# EAGLE library part ML34?E (library con-harting-ml)
HARTING
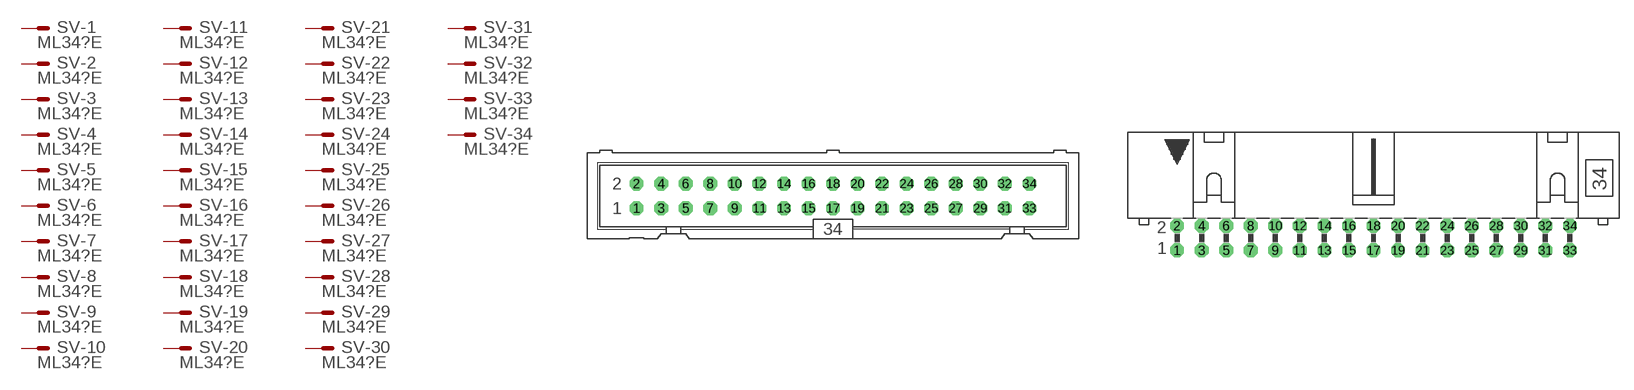
[diagram p1: symbol with the pads of ML34; footprints ML34, ML34L]

Designator prefix SV; gates -1=M -2=M -3=M -4=M -5=M -6=M -7=M -8=M -9=M -10=M -11=M -12=M -13=M -14=M -15=M -16=M -17=M -18=M -19=M -20=M -21=M -22=M -23=M -24=M -25=M -26=M -27=M -28=M -29=M -30=M -31=M -32=M -33=M -34=M

## ML34E (OC_FARNELL: unknown; OC_NEWARK: unknown)  [ML34]
1  -1:S  pas
2  -2:S  pas
3  -3:S  pas
4  -4:S  pas
5  -5:S  pas
6  -6:S  pas
7  -7:S  pas
8  -8:S  pas
9  -9:S  pas
10  -10:S  pas
11  -11:S  pas
12  -12:S  pas
13  -13:S  pas
14  -14:S  pas
15  -15:S  pas
16  -16:S  pas
17  -17:S  pas
18  -18:S  pas
19  -19:S  pas
20  -20:S  pas
21  -21:S  pas
22  -22:S  pas
23  -23:S  pas
24  -24:S  pas
25  -25:S  pas
26  -26:S  pas
27  -27:S  pas
28  -28:S  pas
29  -29:S  pas
30  -30:S  pas
31  -31:S  pas
32  -32:S  pas
33  -33:S  pas
34  -34:S  pas

## ML34LE (OC_FARNELL: unknown; OC_NEWARK: unknown)  [ML34L]
Pads as for ML34

## ML343ME (OC_FARNELL: unknown; OC_NEWARK: unknown)  [3M_34]
Pads as for ML34

## ML343MLE (OC_FARNELL: unknown; OC_NEWARK: unknown)  [3M_34L]
Pads as for ML34

## Footprint ML34 (pad centres in mm)
HARTING
drill 0.914 octagon: 1 -20.32,-1.27; 2 -20.32,1.27; 3 -17.78,-1.27; 4 -17.78,1.27; 5 -15.24,-1.27; 6 -15.24,1.27; 7 -12.7,-1.27; 8 -12.7,1.27; 9 -10.16,-1.27; 10 -10.16,1.27; 11 -7.62,-1.27; 12 -7.62,1.27; 13 -5.08,-1.27; 14 -5.08,1.27; 15 -2.54,-1.27; 16 -2.54,1.27; 17 0,-1.27; 18 0,1.27; 19 2.54,-1.27; 20 2.54,1.27; 21 5.08,-1.27; 22 5.08,1.27; 23 7.62,-1.27; 24 7.62,1.27; 25 10.16,-1.27; 26 10.16,1.27; 27 12.7,-1.27; 28 12.7,1.27; 29 15.24,-1.27; 30 15.24,1.27; 31 17.78,-1.27; 32 17.78,1.27; 33 20.32,-1.27; 34 20.32,1.27

## Footprint ML34L (pad centres in mm)
HARTING
drill 0.914 octagon: 1 -20.32,-1.27; 2 -20.32,1.27; 3 -17.78,-1.27; 4 -17.78,1.27; 5 -15.24,-1.27; 6 -15.24,1.27; 7 -12.7,-1.27; 8 -12.7,1.27; 9 -10.16,-1.27; 10 -10.16,1.27; 11 -7.62,-1.27; 12 -7.62,1.27; 13 -5.08,-1.27; 14 -5.08,1.27; 15 -2.54,-1.27; 16 -2.54,1.27; 17 0,-1.27; 18 0,1.27; 19 2.54,-1.27; 20 2.54,1.27; 21 5.08,-1.27; 22 5.08,1.27; 23 7.62,-1.27; 24 7.62,1.27; 25 10.16,-1.27; 26 10.16,1.27; 27 12.7,-1.27; 28 12.7,1.27; 29 15.24,-1.27; 30 15.24,1.27; 31 17.78,-1.27; 32 17.78,1.27; 33 20.32,-1.27; 34 20.32,1.27

## Footprint 3M_34 (pad centres in mm)
3M
drill 0.813 square: 1 -20.32,-1.27; 2 -20.32,1.27; 3 -17.78,-1.27; 4 -17.78,1.27; 5 -15.24,-1.27; 6 -15.24,1.27; 7 -12.7,-1.27; 8 -12.7,1.27; 9 -10.16,-1.27; 10 -10.16,1.27; 11 -7.62,-1.27; 12 -7.62,1.27; 13 -5.08,-1.27; 14 -5.08,1.27; 15 -2.54,-1.27; 16 -2.54,1.27; 17 0,-1.27; 18 0,1.27; 19 2.54,-1.27; 20 2.54,1.27; 21 5.08,-1.27; 22 5.08,1.27; 23 7.62,-1.27; 24 7.62,1.27; 25 10.16,-1.27; 26 10.16,1.27; 27 12.7,-1.27; 28 12.7,1.27; 29 15.24,-1.27; 30 15.24,1.27; 31 17.78,-1.27; 32 17.78,1.27; 33 20.32,-1.27; 34 20.32,1.27

## Footprint 3M_34L (pad centres in mm)
3M
drill 0.813 square: 1 -20.32,-5.08; 2 -20.32,-2.54; 3 -17.78,-5.08; 4 -17.78,-2.54; 5 -15.24,-5.08; 6 -15.24,-2.54; 7 -12.7,-5.08; 8 -12.7,-2.54; 9 -10.16,-5.08; 10 -10.16,-2.54; 11 -7.62,-5.08; 12 -7.62,-2.54; 13 -5.08,-5.08; 14 -5.08,-2.54; 15 -2.54,-5.08; 16 -2.54,-2.54; 17 0,-5.08; 18 0,-2.54; 19 2.54,-5.08; 20 2.54,-2.54; 21 5.08,-5.08; 22 5.08,-2.54; 23 7.62,-5.08; 24 7.62,-2.54; 25 10.16,-5.08; 26 10.16,-2.54; 27 12.7,-5.08; 28 12.7,-2.54; 29 15.24,-5.08; 30 15.24,-2.54; 31 17.78,-5.08; 32 17.78,-2.54; 33 20.32,-5.08; 34 20.32,-2.54
hole 2.54 at -26.238,-3.277
hole 2.54 at 26.238,-3.277